# Altium integrated library Analog Devices Data Converters Analog-to-Digital Converters.IntLib: 2404 symbols (part 238 of 346)
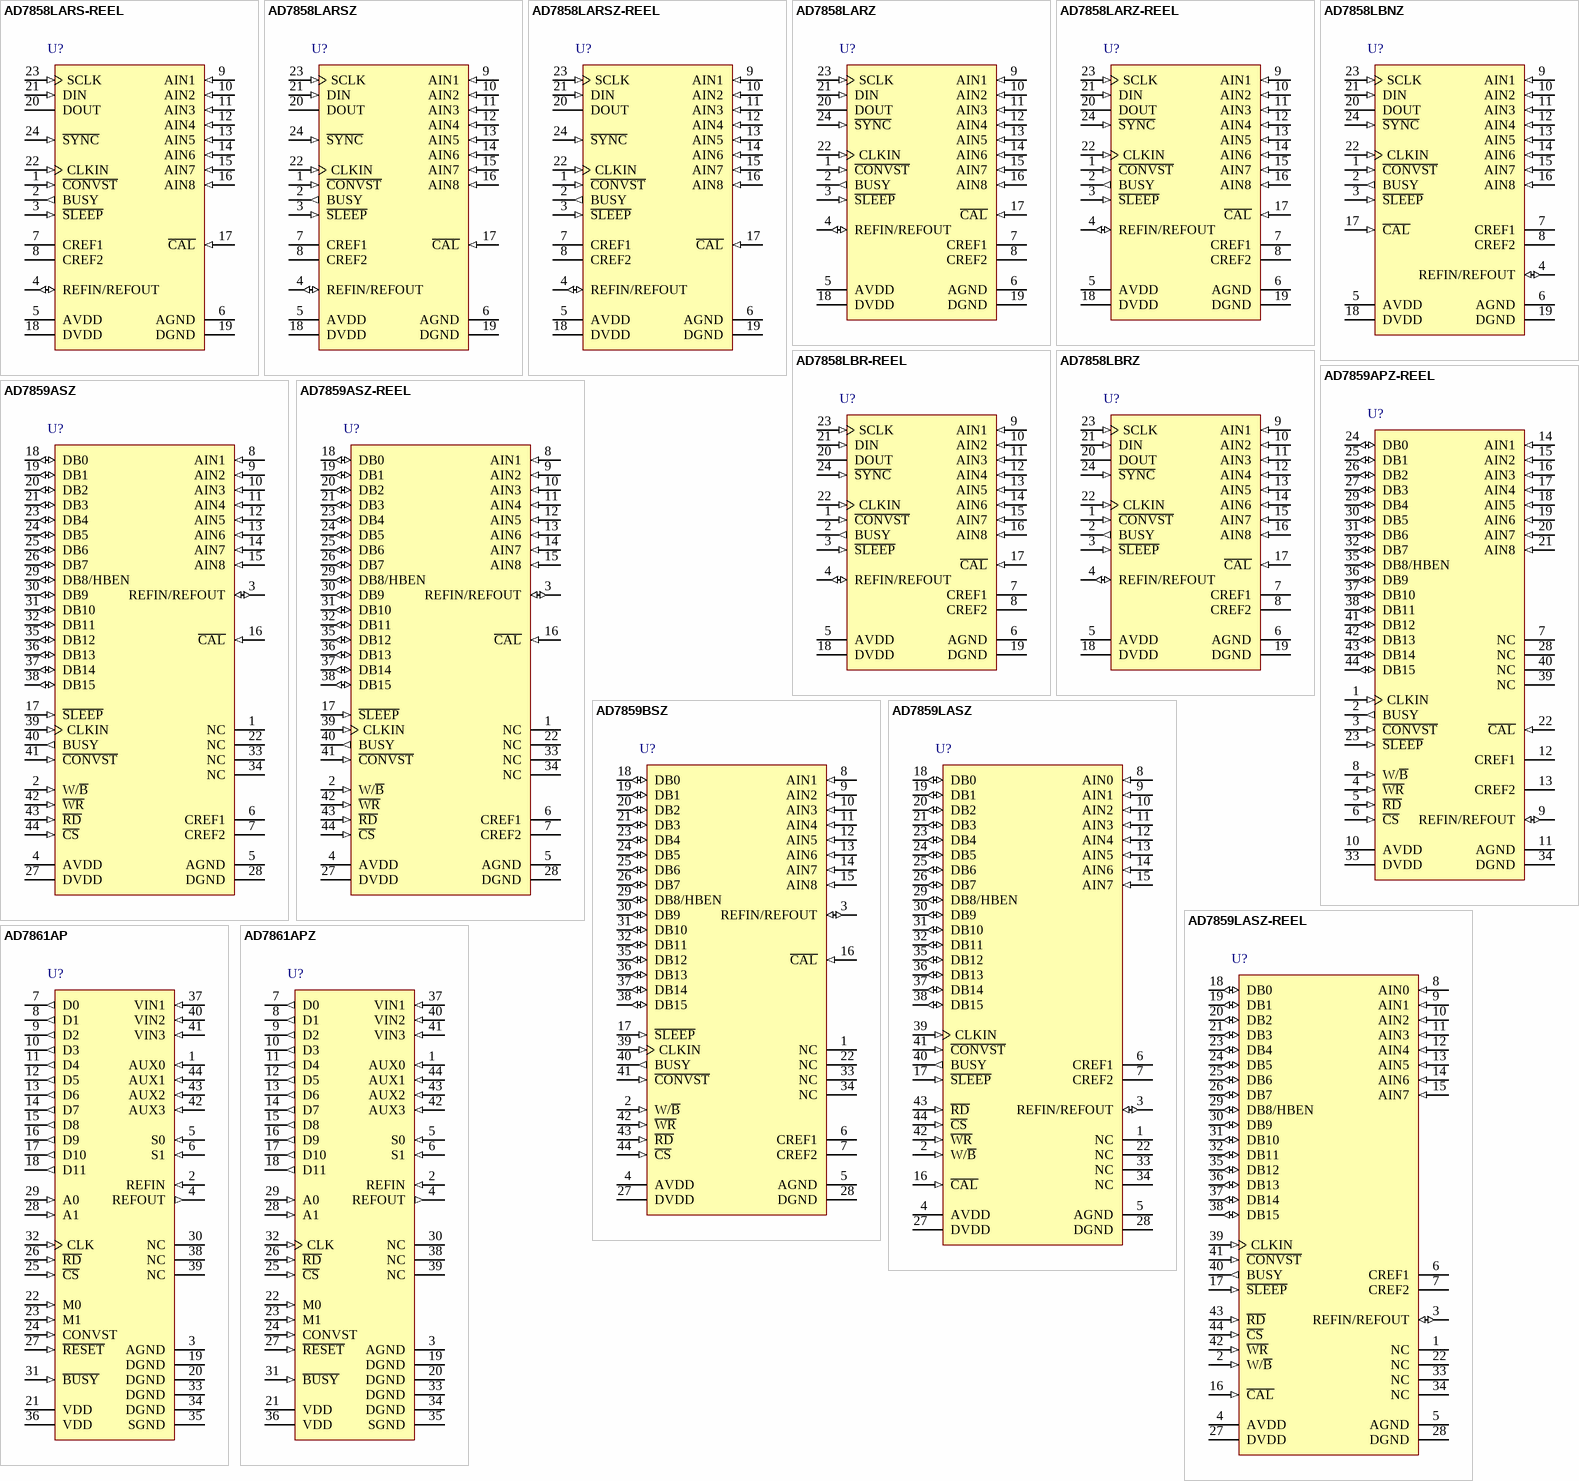
[diagram p282: symbols AD7858LARS-REEL to AD7861APZ]

## AD7859APZ-REEL
designator U?
Octal 12-Bit Sampling Analog-to-Digital Converter with Byte, Parallel Interface, Single Supply, 3 V 200KSPS, -40 to +85 degC, P-44A, Pb-Free, Reel; Generic Part Number: AD7859-200; Manufacturer: Analog Devices; PartNumber: AD7859APZ-REEL; Resolution (Bits): 12; Channels: 8; Throughput Rate (SPS): 200K; DatasheetVersion: Rev.A; PackageVersion: 2003; PackageReference: P-44A; PackageDescription: 44-Lead Plastic Leaded Chip Carrier [PLCC]; Supplier 1: Digi-Key; Supplier Part Number 1: AD7859APZ-REEL-ND; Supplier 2: Mouser; Supplier Part Number 2: 584-AD7859APZ-R; Interface: Byte, Par; RoHS: Y; Packing: Reel; Mounting Technology: Surface Mount; Code_JEDEC: MO-047-AC; Code_IPC: PLCC-44; ComponentLink1Description: Manufacturer URL; ComponentLink1URL: http://www.analog.com/en/index.html; ComponentLink2Description: Datasheet; ComponentLink2URL: http://www.analog.com/static/imported-files/data_sheets/AD7859.pdf; ComponentLink3Description: Package Specification; ComponentLink3URL: http://www.analog.com/static/imported-files/packages/533756178731793364534243243792136664964P44A.pdf; ComponentLink4Description: Product URL; ComponentLink4URL: http://www.analog.com/en/analog-to-digital-converters/ad-converters/ad7859/products/product.html
footprint P-44A_N (Leaded Chip Carrier, 44-Leads, Body 16.6x16.6mm, Pitch 1.27mm, IPC Medium Density)
footprint P-44A_L (Leaded Chip Carrier, 44-Leads, Body 16.6x16.6mm, Pitch 1.27mm, IPC High Density)
footprint P-44A_M (Leaded Chip Carrier, 44-Leads, Body 16.6x16.6mm, Pitch 1.27mm, IPC Low Density)
pins: 1 CLKIN (in) "Convert Start. Logic input. A low to high transition on this input puts the track/hold into its hold mode and starts conversion. When this input is not used, it should be tied to DVDD", 2 BUSY (out) "Busy Output. The busy output is triggered high when a conversion or a calibration is initiated, and remains high until the conversion or calibration is completed.", 3 ~{CONVST} (in) "Convert Start. Logic input. A low to high transition on this input puts the track/hold into its hold mode and starts conversion. When this input is not used, it should be tied to DVDD.", 4 ~{WR} (in) "Write Input. Active low logic input. Used in conjunction with CS to write to internal registers.", 5 ~{RD} (in) "Read Input. Active low logic input. Used in conjunction with CS to read from internal registers.", 6 ~{CS} (in) "Chip Select Input. Active low logic input. The device is selected when this input is active", 7 NC "No connect pins. These pins should be left unconnected", 8 W/~{B} (in) "Word/Byte input. When this input is at a logic 1, data is transferred to and from the AD7859/AD7859L in 16-bit words on pins DB0 to DB15. When this pin is at a Logic 0, byte transfer mode is enabled. Data is transferred on (See Datasheet)", 9 REFIN/REFOUT (io) "Reference Input/Output. This pin is connected to the internal reference through a series resistor and is the reference source for the analog-to-digital converter. The nominal reference voltage is 2.5 V and this appears at (See Datasheet)", 10 AVDD (power) "Analog Supply Voltage, +3.0 V to +5.5 V.", 11 AGND (power) "Analog Ground. Ground reference for track/hold, reference and DAC.", 12 CREF1 "Reference Capacitor (0.1 mF multilayer ceramic). This external capacitor is used as a charge source for the internal DAC. The capacitor should be tied between the pin and AGND.", 13 CREF2 "Reference Capacitor (0.01 mF ceramic disc). This external capacitor is used in conjunction with the on-chip reference.The capacitor should be tied between the pin and AGND.", 14 AIN1 (in) "Analog Inputs. Eight analog inputs which can be used as eight single ended inputs (referenced to AGND) or four pseudo differential inputs. Channel configuration is selected by writing to the control register. None of the (See Datasheet)", 15 AIN2 (in) "Analog Inputs. Eight analog inputs which can be used as eight single ended inputs (referenced to AGND) or four pseudo differential inputs. Channel configuration is selected by writing to the control register. None of the (See Datasheet)", 16 AIN3 (in) "Analog Inputs. Eight analog inputs which can be used as eight single ended inputs (referenced to AGND) or four pseudo differential inputs. Channel configuration is selected by writing to the control register. None of the (See Datasheet)", 17 AIN4 (in) "Analog Inputs. Eight analog inputs which can be used as eight single ended inputs (referenced to AGND) or four pseudo differential inputs. Channel configuration is selected by writing to the control register. None of the (See Datasheet)", 18 AIN5 (in) "Analog Inputs. Eight analog inputs which can be used as eight single ended inputs (referenced to AGND) or four pseudo differential inputs. Channel configuration is selected by writing to the control register. None of the (See Datasheet)", 19 AIN6 (in) "Analog Inputs. Eight analog inputs which can be used as eight single ended inputs (referenced to AGND) or four pseudo differential inputs. Channel configuration is selected by writing to the control register. None of the (See Datasheet)", 20 AIN7 (in) "Analog Inputs. Eight analog inputs which can be used as eight single ended inputs (referenced to AGND) or four pseudo differential inputs. Channel configuration is selected by writing to the control register. None of the (See Datasheet)", 21 AIN8 (in) "Analog Inputs. Eight analog inputs which can be used as eight single ended inputs (referenced to AGND) or four pseudo differential inputs. Channel configuration is selected by writing to the control register. None of the (See Datasheet)", 22 ~{CAL} (in) "Calibration Input. A logic 0 in this pin resets all logic. A rising edge on this pin initiates a calibration. This input overrides all other internal operations.", 23 ~{SLEEP} (in) "Sleep Input. This pin is used in conjunction with the PGMT0 and PGMT1 bits in the control register to determine the power-down mode. Please see the “Power-Down Options” section for details.", 24 DB0 (io) "Data Bits 0. Three state data I/O pins that are controlled by C\S\, R\D\ and W\R\. Data output is straight binary (unipolar mode) or twos complement (bipolar mode).", 25 DB1 (io) "Data Bits 1. Three state data I/O pins that are controlled by C\S\, R\D\ and W\R\. Data output is straight binary (unipolar mode) or twos complement (bipolar mode).", 26 DB2 (io) "Data Bits 2. Three state data I/O pins that are controlled by C\S\, R\D\ and W\R\. Data output is straight binary (unipolar mode) or twos complement (bipolar mode).", 27 DB3 (io) "Data Bits 3. Three state data I/O pins that are controlled by C\S\, R\D\ and W\R\. Data output is straight binary (unipolar mode) or twos complement (bipolar mode).", 28 NC "No connect pins. These pins should be left unconnected.", 29 DB4 (io) "Data Bits 4. Three state data I/O pins that are controlled by C\S\, R\D\ and W\R\. Data output is straight binary (unipolar mode) or twos complement (bipolar mode).", 30 DB5 (io) "Data Bits5. Three state data I/O pins that are controlled by C\S\, R\D\ and W\R\. Data output is straight binary (unipolar mode) or twos complement (bipolar mode).", 31 DB6 (io) "Data Bits 6. Three state data I/O pins that are controlled by C\S\, R\D\ and W\R\. Data output is straight binary (unipolar mode) or twos complement (bipolar mode).", 32 DB7 (io) "Data Bits 7. Three state data I/O pins that are controlled by C\S\, R\D\ and W\R\. Data output is straight binary (unipolar mode) or twos complement (bipolar mode).", 33 DVDD (power) "Digital Supply Voltage, +3.0 V to +5.5 V.", 34 DGND (power) "Digital Ground. Ground reference point for digital circuitry.", 35 DB8/HBEN (io) "Data Bits 8 Three state data I/O pins that are controlled by C\S\, R\D\ and W\R\. Data output is straight binary (unipolar mode) or twos complement (bipolar mode).", 36 DB9 (io) "Data Bits 9 . Three state data I/O pins that are controlled by C\S\, R\D\ and W\R\. Data output is straight binary (unipolar mode) or twos complement (bipolar mode).", 37 DB10 (io) "Data Bits 10. Three state data I/O pins that are controlled by C\S\, R\D\ and W\R\. Data output is straight binary (unipolar mode) or twos complement (bipolar mode).", 38 DB11 (io) "Data Bits 11. Three state data I/O pins that are controlled by C\S\, R\D\ and W\R\. Data output is straight binary (unipolar mode) or twos complement (bipolar mode).", 39 NC "No connect pins. These pins should be left unconnected.", 40 NC "No connect pins. These pins should be left unconnected.", 41 DB12 (io) "Data Bits 12. Three state data I/O pins that are controlled by CS, RD and WR. Data output is straight binary (unipolar mode) or twos complement (bipolar mode).", 42 DB13 (io) "Data Bits 13. Three state data I/O pins that are controlled by CS, RD and WR. Data output is straight binary (unipolar mode) or twos complement (bipolar mode).", 43 DB14 (io) "Data Bits 14. Three state data I/O pins that are controlled by CS, RD and WR. Data output is straight binary (unipolar mode) or twos complement (bipolar mode).", 44 DB15 (io) "Data Bits 15. Three state data I/O pins that are controlled by CS, RD and WR. Data output is straight binary (unipolar mode) or twos complement (bipolar mode)."

## AD7859ASZ
designator U?
Octal 12-Bit Sampling Analog-to-Digital Converter with Byte, Parallel Interface, Single Supply, 3 V, 200KSPS, -40 to +85 degC, S-44-2, Pb-Free, Tray; Generic Part Number: AD7859-200; Manufacturer: Analog Devices; PartNumber: AD7859ASZ; Resolution (Bits): 12; Channels: 8; Throughput Rate (SPS): 200K; DatasheetVersion: Rev.A; PackageVersion: 041807-A; PackageReference: S-44-2; PackageDescription: 44-Lead Metric Quad Flat Package [MQFP]; Supplier 1: Digi-Key; Supplier Part Number 1: AD7859ASZ-ND; Supplier 2: Newark; Supplier Part Number 2: 88H0050; Supplier 3: Mouser; Supplier Part Number 3: 584-AD7859ASZ; Interface: Byte, Par; RoHS: Y; Packing: Tray; Mounting Technology: Surface Mount; Code_JEDEC: MO-122-AA-1; ComponentLink1Description: Manufacturer URL; ComponentLink1URL: http://www.analog.com/en/index.html; ComponentLink2Description: Datasheet; ComponentLink2URL: http://www.analog.com/static/imported-files/data_sheets/AD7859.pdf; ComponentLink3Description: Package Specification; ComponentLink3URL: http://www.analog.com/static/imported-files/packages/209183S_44_2.pdf; ComponentLink4Description: Product URL; ComponentLink4URL: http://www.analog.com/en/analog-to-digital-converters/ad-converters/ad7859/products/product.html
footprint S-44-2_N (QFP, 44-Leads, Body 10x10mm, Pitch 0.8mm, IPC Medium Density)
footprint S-44-2_L (QFP, 44-Leads, Body 10x10mm, Pitch 0.8mm, IPC High Density)
footprint S-44-2_M (QFP, 44-Leads, Body 10x10mm, Pitch 0.8mm, IPC Low Density)
pins: 1 NC "No connect pins.These pins should be left unconnected.", 2 W/~{B} (in) "Word/Byte input.When this input is at a logic 1, data is transferred to and from the AD7859/AD7859L in 16-bit words on pins DB0 to DB15.When this pin is at a Logic 0, byte transfer mode is enabled.Data is transferred on pins (See Datasheet)", 3 REFIN/REFOUT (io) "Reference Input/Output.This pin is connected to the internal reference through a series resistor and is the reference source for the analog-to-digital converter.The nominal reference voltage is 2.5 V and this appears at the (See Datasheet)", 4 AVDD (power) "Analog Supply Voltage, +3.0 V to +5.5 V.", 5 AGND (power) "Analog Ground.Ground reference for track/hold, reference and DAC.", 6 CREF1 "Reference Capacitor (0.1 mF multilayer ceramic).This external capacitor is used as a charge source for the internal DAC. The capacitor should be tied between the pin and AGND.", 7 CREF2 "Reference Capacitor (0.01 mF ceramic disc).This external capacitor is used in conjunction with the on-chip reference.The capacitor should be tied between the pin and AGND.", 8 AIN1 (in) "Analog Inputs.Eight analog inputs which can be used as eight single ended inputs (referenced to AGND) or four pseudo differential inputs. Channel configuration is selected by writing to the control register. None of the (See Datasheet)", 9 AIN2 (in) "Analog Inputs.Eight analog inputs which can be used as eight single ended inputs (referenced to AGND) or four pseudo differential inputs. Channel configuration is selected by writing to the control register. None of the (See Datasheet)", 10 AIN3 (in) "Analog Inputs.Eight analog inputs which can be used as eight single ended inputs (referenced to AGND) or four pseudo differential inputs. Channel configuration is selected by writing to the control register. None of the (See Datasheet)", 11 AIN4 (in) "Analog Inputs.Eight analog inputs which can be used as eight single ended inputs (referenced to AGND) or four pseudo differential inputs. Channel configuration is selected by writing to the control register. None of the (See Datasheet)", 12 AIN5 (in) "Analog Inputs.Eight analog inputs which can be used as eight single ended inputs (referenced to AGND) or four pseudo differential inputs. Channel configuration is selected by writing to the control register. None of the (See Datasheet)", 13 AIN6 (in) "Analog Inputs.Eight analog inputs which can be used as eight single ended inputs (referenced to AGND) or four pseudo differential inputs. Channel configuration is selected by writing to the control register. None of the (See Datasheet)", 14 AIN7 (in) "Analog Inputs.Eight analog inputs which can be used as eight single ended inputs (referenced to AGND) or four pseudo differential inputs. Channel configuration is selected by writing to the control register. None of the (See Datasheet)", 15 AIN8 (in) "Analog Inputs.Eight analog inputs which can be used as eight single ended inputs (referenced to AGND) or four pseudo differential inputs. Channel configuration is selected by writing to the control register. None of the (See Datasheet)", 16 ~{CAL} (in) "Calibration Input.A logic 0 in this pin resets all logic. A rising edge on this pin initiates a calibration.  This input overrides all other internal operations.", 17 ~{SLEEP} (in) "Sleep Input.This pin is used in conjunction with the PGMT0 and PGMT1 bits in the control register to determine the power-down mode.  Please see the "Power-Down Options"section for details.", 18 DB0 (io) "Data Bits 0.Three state data I/O pins that are controlled by C\S\, R\D\ and W\R\.  Data output is straight binary(unipolar mode) or twos complement (bipolar mode).", 19 DB1 (io) "Data Bits 1.Three state data I/O pins that are controlled by C\S\, R\D\ and W\R\.  Data output is straight binary(unipolar mode) or twos complement (bipolar mode).", 20 DB2 (io) "Data Bits 2.Three state data I/O pins that are controlled by C\S\, R\D\ and W\R\.  Data output is straight binary(unipolar mode) or twos complement (bipolar mode).", 21 DB3 (io) "Data Bits 3.Three state data I/O pins that are controlled by C\S\, R\D\ and W\R\.  Data output is straight binary(unipolar mode) or twos complement (bipolar mode).", 22 NC "No connect pins.These pins should be left unconnected.", 23 DB4 (io) "Data Bits 4.Three state data I/O pins that are controlled by C\S\, R\D\ and W\R\.  Data output is straight binary(unipolar mode) or twos complement (bipolar mode).", 24 DB5 (io) "Data Bits 5.Three state data I/O pins that are controlled by C\S\, R\D\ and W\R\.  Data output is straight binary(unipolar mode) or twos complement (bipolar mode).", 25 DB6 (io) "Data Bits 6.Three state data I/O pins that are controlled by C\S\, R\D\ and W\R\.  Data output is straight binary(unipolar mode) or twos complement (bipolar mode).", 26 DB7 (io) "Data Bits 7.Three state data I/O pins that are controlled by C\S\, R\D\ and W\R\.  Data output is straight binary(unipolar mode) or twos complement (bipolar mode).", 27 DVDD (power) "Digital Supply Voltage, +3.0 V to +5.5 V.", 28 DGND (power) "Digital Ground. Ground reference point for digital circuitry.", 29 DB8/HBEN (io) "Data Bit 8/High Byte Enable.  When W/B\ is high, this pin acts as Data Bit 7, a three state data I/O pin that is controlled by C\S\, R\D\ and W\R\.  When W/B\ is low, this pin acts as the High Byte Enable pin.When HBEN is (See Datasheet)", 30 DB9 (io) "Data Bits 9.Three state data I/O pins that are controlled by C\S\, R\D\ and W\R\.  Data output is straight binary (unipolar mode) or twos complement (bipolar mode).", 31 DB10 (io) "Data Bits 10.Three state data I/O pins that are controlled by C\S\, R\D\ and W\R\.  Data output is straight binary (unipolar mode) or twos complement (bipolar mode).", 32 DB11 (io) "Data Bits 11.Three state data I/O pins that are controlled by C\S\, R\D\ and W\R\.  Data output is straight binary (unipolar mode) or twos complement (bipolar mode).", 33 NC "No connect pins.These pins should be left unconnected.", 34 NC "No connect pins.These pins should be left unconnected.", 35 DB12 (io) "Data Bits 12.Three state data I/O pins that are controlled by C\S\, R\D\ and W\R\.  Data output is straight binary (unipolar mode) or twos complement (bipolar mode).", 36 DB13 (io) "Data Bits 13.Three state data I/O pins that are controlled by C\S\, R\D\ and W\R\.  Data output is straight binary (unipolar mode) or twos complement (bipolar mode).", 37 DB14 (io) "Data Bits 14.Three state data I/O pins that are controlled by C\S\, R\D\ and W\R\.  Data output is straight binary (unipolar mode) or twos complement (bipolar mode).", 38 DB15 (io) "Data Bits 15.Three state data I/O pins that are controlled by C\S\, R\D\ and W\R\.  Data output is straight binary (unipolar mode) or twos complement (bipolar mode).", 39 CLKIN (in) "Master Clock Signal for the device (4 MHz for AD7859, 1.8 MHz for AD7859L). Sets the conversion and calibration times.", 40 BUSY (out) "Busy Output.The busy output is triggered high when a conversion or a calibration is initiated, and remains high until the conversion or calibration is completed.", 41 ~{CONVST} (in) "Convert Start. Logic input. A low to high transition on this input puts the track/hold into its hold mode and starts conversion. When this input is not used, it should be tied to DVDD.", 42 ~{WR} (in) "Write Input. Active low logic input. Used in conjunction with C\S\ to write to internal registers.", 43 ~{RD} (in) "Read Input. Active low logic input. Used in conjunction with C\S\ to read from internal registers.", 44 ~{CS} (in) "Chip Select Input.Active low logic input. The device is selected when this input is active."

## AD7859ASZ-REEL
designator U?
Octal 12-Bit Sampling Analog-to-Digital Converter with Byte, Parallel Interface, Single Supply, 3 V, 200KSPS, -40 to +85 degC, S-44-2, Pb-Free, Reel; Generic Part Number: AD7859-200; Manufacturer: Analog Devices; PartNumber: AD7859ASZ-REEL; Resolution (Bits): 12; Channels: 8; Throughput Rate (SPS): 200K; DatasheetVersion: Rev.A; PackageVersion: 041807-A; PackageReference: S-44-2; PackageDescription: 44-Lead Metric Quad Flat Package [MQFP]; Supplier 1: Digi-Key; Supplier Part Number 1: AD7859ASZ-REEL-ND; Supplier 2: Mouser; Supplier Part Number 2: 584-AD7859ASZ-R; Interface: Byte, Par; RoHS: Y; Packing: Reel; Mounting Technology: Surface Mount; Code_JEDEC: MO-122-AA-1; ComponentLink1Description: Manufacturer URL; ComponentLink1URL: http://www.analog.com/en/index.html; ComponentLink2Description: Datasheet; ComponentLink2URL: http://www.analog.com/static/imported-files/data_sheets/AD7859.pdf; ComponentLink3Description: Package Specification; ComponentLink3URL: http://www.analog.com/static/imported-files/packages/209183S_44_2.pdf; ComponentLink4Description: Product URL; ComponentLink4URL: http://www.analog.com/en/analog-to-digital-converters/ad-converters/ad7859/products/product.html
footprint S-44-2_N (QFP, 44-Leads, Body 10x10mm, Pitch 0.8mm, IPC Medium Density)
footprint S-44-2_L (QFP, 44-Leads, Body 10x10mm, Pitch 0.8mm, IPC High Density)
footprint S-44-2_M (QFP, 44-Leads, Body 10x10mm, Pitch 0.8mm, IPC Low Density)
pins: 1 NC "No connect pins.These pins should be left unconnected.", 2 W/~{B} (in) "Word/Byte input.When this input is at a logic 1, data is transferred to and from the AD7859/AD7859L in 16-bit words on pins DB0 to DB15.When this pin is at a Logic 0, byte transfer mode is enabled.Data is transferred on pins (See Datasheet)", 3 REFIN/REFOUT (io) "Reference Input/Output.This pin is connected to the internal reference through a series resistor and is the reference source for the analog-to-digital converter.The nominal reference voltage is 2.5 V and this appears at the (See Datasheet)", 4 AVDD (power) "Analog Supply Voltage, +3.0 V to +5.5 V.", 5 AGND (power) "Analog Ground.Ground reference for track/hold, reference and DAC.", 6 CREF1 "Reference Capacitor (0.1 mF multilayer ceramic).This external capacitor is used as a charge source for the internal DAC. The capacitor should be tied between the pin and AGND.", 7 CREF2 "Reference Capacitor (0.01 mF ceramic disc).This external capacitor is used in conjunction with the on-chip reference.The capacitor should be tied between the pin and AGND.", 8 AIN1 (in) "Analog Inputs.Eight analog inputs which can be used as eight single ended inputs (referenced to AGND) or four pseudo differential inputs. Channel configuration is selected by writing to the control register. None of the (See Datasheet)", 9 AIN2 (in) "Analog Inputs.Eight analog inputs which can be used as eight single ended inputs (referenced to AGND) or four pseudo differential inputs. Channel configuration is selected by writing to the control register. None of the (See Datasheet)", 10 AIN3 (in) "Analog Inputs.Eight analog inputs which can be used as eight single ended inputs (referenced to AGND) or four pseudo differential inputs. Channel configuration is selected by writing to the control register. None of the (See Datasheet)", 11 AIN4 (in) "Analog Inputs.Eight analog inputs which can be used as eight single ended inputs (referenced to AGND) or four pseudo differential inputs. Channel configuration is selected by writing to the control register. None of the (See Datasheet)", 12 AIN5 (in) "Analog Inputs.Eight analog inputs which can be used as eight single ended inputs (referenced to AGND) or four pseudo differential inputs. Channel configuration is selected by writing to the control register. None of the (See Datasheet)", 13 AIN6 (in) "Analog Inputs.Eight analog inputs which can be used as eight single ended inputs (referenced to AGND) or four pseudo differential inputs. Channel configuration is selected by writing to the control register. None of the (See Datasheet)", 14 AIN7 (in) "Analog Inputs.Eight analog inputs which can be used as eight single ended inputs (referenced to AGND) or four pseudo differential inputs. Channel configuration is selected by writing to the control register. None of the (See Datasheet)", 15 AIN8 (in) "Analog Inputs.Eight analog inputs which can be used as eight single ended inputs (referenced to AGND) or four pseudo differential inputs. Channel configuration is selected by writing to the control register. None of the (See Datasheet)", 16 ~{CAL} (in) "Calibration Input.A logic 0 in this pin resets all logic. A rising edge on this pin initiates a calibration.  This input overrides all other internal operations.", 17 ~{SLEEP} (in) "Sleep Input.This pin is used in conjunction with the PGMT0 and PGMT1 bits in the control register to determine the power-down mode.  Please see the "Power-Down Options"section for details.", 18 DB0 (io) "Data Bits 0.Three state data I/O pins that are controlled by C\S\, R\D\ and W\R\.  Data output is straight binary(unipolar mode) or twos complement (bipolar mode).", 19 DB1 (io) "Data Bits 1.Three state data I/O pins that are controlled by C\S\, R\D\ and W\R\.  Data output is straight binary(unipolar mode) or twos complement (bipolar mode).", 20 DB2 (io) "Data Bits 2.Three state data I/O pins that are controlled by C\S\, R\D\ and W\R\.  Data output is straight binary(unipolar mode) or twos complement (bipolar mode).", 21 DB3 (io) "Data Bits 3.Three state data I/O pins that are controlled by C\S\, R\D\ and W\R\.  Data output is straight binary(unipolar mode) or twos complement (bipolar mode).", 22 NC "No connect pins.These pins should be left unconnected.", 23 DB4 (io) "Data Bits 4.Three state data I/O pins that are controlled by C\S\, R\D\ and W\R\.  Data output is straight binary(unipolar mode) or twos complement (bipolar mode).", 24 DB5 (io) "Data Bits 5.Three state data I/O pins that are controlled by C\S\, R\D\ and W\R\.  Data output is straight binary(unipolar mode) or twos complement (bipolar mode).", 25 DB6 (io) "Data Bits 6.Three state data I/O pins that are controlled by C\S\, R\D\ and W\R\.  Data output is straight binary(unipolar mode) or twos complement (bipolar mode).", 26 DB7 (io) "Data Bits 7.Three state data I/O pins that are controlled by C\S\, R\D\ and W\R\.  Data output is straight binary(unipolar mode) or twos complement (bipolar mode).", 27 DVDD (power) "Digital Supply Voltage, +3.0 V to +5.5 V.", 28 DGND (power) "Digital Ground. Ground reference point for digital circuitry.", 29 DB8/HBEN (io) "Data Bit 8/High Byte Enable.  When W/B\ is high, this pin acts as Data Bit 7, a three state data I/O pin that is controlled by C\S\, R\D\ and W\R\.  When W/B\ is low, this pin acts as the High Byte Enable pin.When HBEN is (See Datasheet)", 30 DB9 (io) "Data Bits 9.Three state data I/O pins that are controlled by C\S\, R\D\ and W\R\.  Data output is straight binary (unipolar mode) or twos complement (bipolar mode).", 31 DB10 (io) "Data Bits 10.Three state data I/O pins that are controlled by C\S\, R\D\ and W\R\.  Data output is straight binary (unipolar mode) or twos complement (bipolar mode).", 32 DB11 (io) "Data Bits 11.Three state data I/O pins that are controlled by C\S\, R\D\ and W\R\.  Data output is straight binary (unipolar mode) or twos complement (bipolar mode).", 33 NC "No connect pins.These pins should be left unconnected.", 34 NC "No connect pins.These pins should be left unconnected.", 35 DB12 (io) "Data Bits 12.Three state data I/O pins that are controlled by C\S\, R\D\ and W\R\.  Data output is straight binary (unipolar mode) or twos complement (bipolar mode).", 36 DB13 (io) "Data Bits 13.Three state data I/O pins that are controlled by C\S\, R\D\ and W\R\.  Data output is straight binary (unipolar mode) or twos complement (bipolar mode).", 37 DB14 (io) "Data Bits 14.Three state data I/O pins that are controlled by C\S\, R\D\ and W\R\.  Data output is straight binary (unipolar mode) or twos complement (bipolar mode).", 38 DB15 (io) "Data Bits 15.Three state data I/O pins that are controlled by C\S\, R\D\ and W\R\.  Data output is straight binary (unipolar mode) or twos complement (bipolar mode).", 39 CLKIN (in) "Master Clock Signal for the device (4 MHz for AD7859, 1.8 MHz for AD7859L). Sets the conversion and calibration times.", 40 BUSY (out) "Busy Output.The busy output is triggered high when a conversion or a calibration is initiated, and remains high until the conversion or calibration is completed.", 41 ~{CONVST} (in) "Convert Start. Logic input. A low to high transition on this input puts the track/hold into its hold mode and starts conversion. When this input is not used, it should be tied to DVDD.", 42 ~{WR} (in) "Write Input. Active low logic input. Used in conjunction with C\S\ to write to internal registers.", 43 ~{RD} (in) "Read Input. Active low logic input. Used in conjunction with C\S\ to read from internal registers.", 44 ~{CS} (in) "Chip Select Input.Active low logic input. The device is selected when this input is active."

## AD7859BSZ
designator U?
Octal 12-Bit Sampling Analog-to-Digital Converter with Byte, Parallel Interface, Single Supply, 3 V, 200KSPS, -40 to +85 degC, S-44-2, Pb-Free, Tray; Generic Part Number: AD7859-200; Manufacturer: Analog Devices; PartNumber: AD7859BSZ; Resolution (Bits): 12; Channels: 8; Throughput Rate (SPS): 200K; DatasheetVersion: Rev.A; PackageVersion: 041807-A; PackageReference: S-44-2; PackageDescription: 44-Lead Metric Quad Flat Package [MQFP]; Supplier 1: Digi-Key; Supplier Part Number 1: AD7859BSZ-ND; Supplier 2: Mouser; Supplier Part Number 2: 584-AD7859BSZ; Interface: Byte, Par; RoHS: Y; Packing: Tray; Mounting Technology: Surface Mount; Code_JEDEC: MO-122-AA-1; ComponentLink1Description: Manufacturer URL; ComponentLink1URL: http://www.analog.com/en/index.html; ComponentLink2Description: Datasheet; ComponentLink2URL: http://www.analog.com/static/imported-files/data_sheets/AD7859.pdf; ComponentLink3Description: Package Specification; ComponentLink3URL: http://www.analog.com/static/imported-files/packages/209183S_44_2.pdf; ComponentLink4Description: Product URL; ComponentLink4URL: http://www.analog.com/en/analog-to-digital-converters/ad-converters/ad7859/products/product.html
footprint S-44-2_N (QFP, 44-Leads, Body 10x10mm, Pitch 0.8mm, IPC Medium Density)
footprint S-44-2_L (QFP, 44-Leads, Body 10x10mm, Pitch 0.8mm, IPC High Density)
footprint S-44-2_M (QFP, 44-Leads, Body 10x10mm, Pitch 0.8mm, IPC Low Density)
pins: 1 NC "No connect pins.These pins should be left unconnected.", 2 W/~{B} (in) "Word/Byte input.When this input is at a logic 1, data is transferred to and from the AD7859/AD7859L in 16-bit words on pins DB0 to DB15.When this pin is at a Logic 0, byte transfer mode is enabled.Data is transferred on pins (See Datasheet)", 3 REFIN/REFOUT (io) "Reference Input/Output.This pin is connected to the internal reference through a series resistor and is the reference source for the analog-to-digital converter.The nominal reference voltage is 2.5 V and this appears at the (See Datasheet)", 4 AVDD (power) "Analog Supply Voltage, +3.0 V to +5.5 V.", 5 AGND (power) "Analog Ground.Ground reference for track/hold, reference and DAC.", 6 CREF1 "Reference Capacitor (0.1 mF multilayer ceramic).This external capacitor is used as a charge source for the internal DAC. The capacitor should be tied between the pin and AGND.", 7 CREF2 "Reference Capacitor (0.01 mF ceramic disc).This external capacitor is used in conjunction with the on-chip reference.The capacitor should be tied between the pin and AGND.", 8 AIN1 (in) "Analog Inputs.Eight analog inputs which can be used as eight single ended inputs (referenced to AGND) or four pseudo differential inputs. Channel configuration is selected by writing to the control register. None of the (See Datasheet)", 9 AIN2 (in) "Analog Inputs.Eight analog inputs which can be used as eight single ended inputs (referenced to AGND) or four pseudo differential inputs. Channel configuration is selected by writing to the control register. None of the (See Datasheet)", 10 AIN3 (in) "Analog Inputs.Eight analog inputs which can be used as eight single ended inputs (referenced to AGND) or four pseudo differential inputs. Channel configuration is selected by writing to the control register. None of the (See Datasheet)", 11 AIN4 (in) "Analog Inputs.Eight analog inputs which can be used as eight single ended inputs (referenced to AGND) or four pseudo differential inputs. Channel configuration is selected by writing to the control register. None of the (See Datasheet)", 12 AIN5 (in) "Analog Inputs.Eight analog inputs which can be used as eight single ended inputs (referenced to AGND) or four pseudo differential inputs. Channel configuration is selected by writing to the control register. None of the (See Datasheet)", 13 AIN6 (in) "Analog Inputs.Eight analog inputs which can be used as eight single ended inputs (referenced to AGND) or four pseudo differential inputs. Channel configuration is selected by writing to the control register. None of the (See Datasheet)", 14 AIN7 (in) "Analog Inputs.Eight analog inputs which can be used as eight single ended inputs (referenced to AGND) or four pseudo differential inputs. Channel configuration is selected by writing to the control register. None of the (See Datasheet)", 15 AIN8 (in) "Analog Inputs.Eight analog inputs which can be used as eight single ended inputs (referenced to AGND) or four pseudo differential inputs. Channel configuration is selected by writing to the control register. None of the (See Datasheet)", 16 ~{CAL} (in) "Calibration Input.A logic 0 in this pin resets all logic. A rising edge on this pin initiates a calibration.  This input overrides all other internal operations.", 17 ~{SLEEP} (in) "Sleep Input.This pin is used in conjunction with the PGMT0 and PGMT1 bits in the control register to determine the power-down mode.  Please see the "Power-Down Options"section for details.", 18 DB0 (io) "Data Bits 0.Three state data I/O pins that are controlled by C\S\, R\D\ and W\R\.  Data output is straight binary(unipolar mode) or twos complement (bipolar mode).", 19 DB1 (io) "Data Bits 1.Three state data I/O pins that are controlled by C\S\, R\D\ and W\R\.  Data output is straight binary(unipolar mode) or twos complement (bipolar mode).", 20 DB2 (io) "Data Bits 2.Three state data I/O pins that are controlled by C\S\, R\D\ and W\R\.  Data output is straight binary(unipolar mode) or twos complement (bipolar mode).", 21 DB3 (io) "Data Bits 3.Three state data I/O pins that are controlled by C\S\, R\D\ and W\R\.  Data output is straight binary(unipolar mode) or twos complement (bipolar mode).", 22 NC "No connect pins.These pins should be left unconnected.", 23 DB4 (io) "Data Bits 4.Three state data I/O pins that are controlled by C\S\, R\D\ and W\R\.  Data output is straight binary(unipolar mode) or twos complement (bipolar mode).", 24 DB5 (io) "Data Bits 5.Three state data I/O pins that are controlled by C\S\, R\D\ and W\R\.  Data output is straight binary(unipolar mode) or twos complement (bipolar mode).", 25 DB6 (io) "Data Bits 6.Three state data I/O pins that are controlled by C\S\, R\D\ and W\R\.  Data output is straight binary(unipolar mode) or twos complement (bipolar mode).", 26 DB7 (io) "Data Bits 7.Three state data I/O pins that are controlled by C\S\, R\D\ and W\R\.  Data output is straight binary(unipolar mode) or twos complement (bipolar mode).", 27 DVDD (power) "Digital Supply Voltage, +3.0 V to +5.5 V.", 28 DGND (power) "Digital Ground. Ground reference point for digital circuitry.", 29 DB8/HBEN (io) "Data Bit 8/High Byte Enable.  When W/B\ is high, this pin acts as Data Bit 7, a three state data I/O pin that is controlled by C\S\, R\D\ and W\R\.  When W/B\ is low, this pin acts as the High Byte Enable pin.When HBEN is (See Datasheet)", 30 DB9 (io) "Data Bits 9.Three state data I/O pins that are controlled by C\S\, R\D\ and W\R\.  Data output is straight binary (unipolar mode) or twos complement (bipolar mode).", 31 DB10 (io) "Data Bits 10.Three state data I/O pins that are controlled by C\S\, R\D\ and W\R\.  Data output is straight binary (unipolar mode) or twos complement (bipolar mode).", 32 DB11 (io) "Data Bits 11.Three state data I/O pins that are controlled by C\S\, R\D\ and W\R\.  Data output is straight binary (unipolar mode) or twos complement (bipolar mode).", 33 NC "No connect pins.These pins should be left unconnected.", 34 NC "No connect pins.These pins should be left unconnected.", 35 DB12 (io) "Data Bits 12.Three state data I/O pins that are controlled by C\S\, R\D\ and W\R\.  Data output is straight binary (unipolar mode) or twos complement (bipolar mode).", 36 DB13 (io) "Data Bits 13.Three state data I/O pins that are controlled by C\S\, R\D\ and W\R\.  Data output is straight binary (unipolar mode) or twos complement (bipolar mode).", 37 DB14 (io) "Data Bits 14.Three state data I/O pins that are controlled by C\S\, R\D\ and W\R\.  Data output is straight binary (unipolar mode) or twos complement (bipolar mode).", 38 DB15 (io) "Data Bits 15.Three state data I/O pins that are controlled by C\S\, R\D\ and W\R\.  Data output is straight binary (unipolar mode) or twos complement (bipolar mode).", 39 CLKIN (in) "Master Clock Signal for the device (4 MHz for AD7859, 1.8 MHz for AD7859L). Sets the conversion and calibration times.", 40 BUSY (out) "Busy Output.The busy output is triggered high when a conversion or a calibration is initiated, and remains high until the conversion or calibration is completed.", 41 ~{CONVST} (in) "Convert Start. Logic input. A low to high transition on this input puts the track/hold into its hold mode and starts conversion. When this input is not used, it should be tied to DVDD.", 42 ~{WR} (in) "Write Input. Active low logic input. Used in conjunction with C\S\ to write to internal registers.", 43 ~{RD} (in) "Read Input. Active low logic input. Used in conjunction with C\S\ to read from internal registers.", 44 ~{CS} (in) "Chip Select Input.Active low logic input. The device is selected when this input is active."

## AD7859LASZ
designator U?
Octal 12-Bit Sampling Analog-to-Digital Converter with Byte, Parallel Interface, Single Supply, 3 V 100KSPS, -40 to +85 degC, S-44-2, Pb-Free, Tray; Generic Part Number: AD7859L-100; Manufacturer: Analog Devices; PartNumber: AD7859LASZ; Resolution (Bits): 12; Channels: 8; Throughput Rate (SPS): 100K; DatasheetVersion: Rev.A; PackageVersion: 041807-A; PackageReference: S-44-2; PackageDescription: 44-Lead Metric Quad Flat Package [MQFP]; Supplier 1: Digi-Key; Supplier Part Number 1: AD7859LASZ-ND; Supplier 2: Farnell; Supplier Part Number 2: 1423975; Supplier 3: Newark; Supplier Part Number 3: 59K5716; Supplier 4: Mouser; Supplier Part Number 4: 584-AD7859LASZ; Interface: Byte, Par; RoHS: Y; Packing: Tray; Mounting Technology: Surface Mount; Code_JEDEC: MO-122-AA-1; ComponentLink1Description: Manufacturer URL; ComponentLink1URL: http://www.analog.com/en/index.html; ComponentLink2Description: Datasheet; ComponentLink2URL: http://www.analog.com/static/imported-files/data_sheets/AD7859.pdf; ComponentLink3Description: Package Specification; ComponentLink3URL: http://www.analog.com/static/imported-files/packages/209183S_44_2.pdf; ComponentLink4Description: Product URL; ComponentLink4URL: http://www.analog.com/en/analog-to-digital-converters/ad-converters/ad7859/products/product.html
footprint S-44-2_N (QFP, 44-Leads, Body 10x10mm, Pitch 0.8mm, IPC Medium Density)
footprint S-44-2_L (QFP, 44-Leads, Body 10x10mm, Pitch 0.8mm, IPC High Density)
footprint S-44-2_M (QFP, 44-Leads, Body 10x10mm, Pitch 0.8mm, IPC Low Density)
pins: 1 NC "No connect pins. These pins should be left unconnected", 2 W/~{B} (in) "Word/Byte input. When this input is at a logic 1, data is transferred to and from the AD7859/AD7859L in 16-bit words on pins DB0 to DB15. When this pin is at a Logic 0, byte transfer mode is enabled. Data is transferred on (See Datasheet)", 3 REFIN/REFOUT (io) "Reference Input/Output. This pin is connected to the internal reference through a series resistor and is the reference source for the analog-to-digital converter. The nominal reference voltage is 2.5 V and this appears at (See Datasheet)", 4 AVDD (power) "Analog Supply Voltage, +3.0 V to +5.5 V.", 5 AGND (power) "Analog Ground. Ground reference for track/hold, reference and DAC.", 6 CREF1 "Reference Capacitor (0.1 mF multilayer ceramic). This external capacitor is used as a charge source for the internal DAC. The capacitor should be tied between the pin and AGND.", 7 CREF2 "Reference Capacitor (0.01 mF ceramic disc). This external capacitor is used in conjunction with the on-chip reference.The capacitor should be tied between the pin and AGND.", 8 AIN0 (in) "Analog Inputs. Eight analog inputs which can be used as eight single ended inputs (referenced to AGND) or four pseudo differential inputs. Channel configuration is selected by writing to the control register. None of the (See Datasheet)", 9 AIN1 (in) "Analog Inputs. Eight analog inputs which can be used as eight single ended inputs (referenced to AGND) or four pseudo differential inputs. Channel configuration is selected by writing to the control register. None of the (See Datasheet)", 10 AIN2 (in) "Analog Inputs. Eight analog inputs which can be used as eight single ended inputs (referenced to AGND) or four pseudo differential inputs. Channel configuration is selected by writing to the control register. None of the (See Datasheet)", 11 AIN3 (in) "Analog Inputs. Eight analog inputs which can be used as eight single ended inputs (referenced to AGND) or four pseudo differential inputs. Channel configuration is selected by writing to the control register. None of the (See Datasheet)", 12 AIN4 (in) "Analog Inputs. Eight analog inputs which can be used as eight single ended inputs (referenced to AGND) or four pseudo differential inputs. Channel configuration is selected by writing to the control register. None of the (See Datasheet)", 13 AIN5 (in) "Analog Inputs. Eight analog inputs which can be used as eight single ended inputs (referenced to AGND) or four pseudo differential inputs. Channel configuration is selected by writing to the control register. None of the (See Datasheet)", 14 AIN6 (in) "Analog Inputs. Eight analog inputs which can be used as eight single ended inputs (referenced to AGND) or four pseudo differential inputs. Channel configuration is selected by writing to the control register. None of the (See Datasheet)", 15 AIN7 (in) "Analog Inputs. Eight analog inputs which can be used as eight single ended inputs (referenced to AGND) or four pseudo differential inputs. Channel configuration is selected by writing to the control register. None of the (See Datasheet)", 16 ~{CAL} (in) "Calibration Input. A logic 0 in this pin resets all logic. A rising edge on this pin initiates a calibration. This input overrides all other internal operations.", 17 ~{SLEEP} (in) "Sleep Input. This pin is used in conjunction with the PGMT0 and PGMT1 bits in the control register to determine the power-down mode. Please see the "Power-Down Options" section for details.", 18 DB0 (io) "Data Bits 0. Three state data I/O pins that are controlled by C\S\, R\D\ and W\R\. Data output is straight binary (unipolar mode) or twos complement (bipolar mode).", 19 DB1 (io) "Data Bits 1. Three state data I/O pins that are controlled by C\S\, R\D\ and W\R\. Data output is straight binary (unipolar mode) or twos complement (bipolar mode).", 20 DB2 (io) "Data Bits 2. Three state data I/O pins that are controlled by C\S\, R\D\ and W\R\. Data output is straight binary (unipolar mode) or twos complement (bipolar mode).", 21 DB3 (io) "Data Bits 3. Three state data I/O pins that are controlled by C\S\, R\D\ and W\R\. Data output is straight binary (unipolar mode) or twos complement (bipolar mode).", 22 NC "No connect pins. These pins should be left unconnected.", 23 DB4 (io) "Data Bits 4. Three state data I/O pins that are controlled by C\S\, R\D\ and W\R\. Data output is straight binary (unipolar mode) or twos complement (bipolar mode).", 24 DB5 (io) "Data Bits 5. Three state data I/O pins that are controlled by C\S\,\R\D\ and W\R\. Data output is straight binary (unipolar mode) or twos complement (bipolar mode).", 25 DB6 (io) "Data Bits 6. Three state data I/O pins that are controlled by C\S\, R\D\ and W\R\. Data output is straight binary (unipolar mode) or twos complement (bipolar mode).", 26 DB7 (io) "Data Bits 7. Three state data I/O pins that are controlled by C\S\, R\D\ and W\R\. Data output is straight binary (unipolar mode) or twos complement (bipolar mode).", 27 DVDD (power) "Digital Supply Voltage, +3.0 V to +5.5 V.", 28 DGND (power) "Digital Ground. Ground reference point for digital circuitry.", 29 DB8/HBEN (io) "Data Bits 8. Three state data I/O pins that are controlled by C\S\, R\D\ and W\R\. Data output is straight binary (unipolar mode) or twos complement (bipolar mode).", 30 DB9 (io) "Data Bits 9. Three state data I/O pins that are controlled by C\S\, R\D\ and W\R\. Data output is straight binary (unipolar mode) or twos complement (bipolar mode).", 31 DB10 (io) "Data Bits 10. Three state data I/O pins that are controlled by C\S\, R\D\ and W\R\. Data output is straight binary (unipolar mode) or twos complement (bipolar mode).", 32 DB11 (io) "Data Bits 11. Three state data I/O pins that are controlled by C\S\, R\D\ and W\R\. Data output is straight binary (unipolar mode) or twos complement (bipolar mode).", 33 NC "No connect pins. These pins should be left unconnected.", 34 NC "No connect pins. These pins should be left unconnected.", 35 DB12 (io) "Data Bits 12. Three state data I/O pins that are controlled by C\S\, R\D\ and W\R\. Data output is straight binary (unipolar mode) or twos complement (bipolar mode).", 36 DB13 (io) "Data Bits 13. Three state data I/O pins that are controlled by C\S\, R\D\ and W\R\. Data output is straight binary (unipolar mode) or twos complement (bipolar mode).", 37 DB14 (io) "Data Bits 14. Three state data I/O pins that are controlled by C\S\, R\D\ and W\R\. Data output is straight binary (unipolar mode) or twos complement (bipolar mode).", 38 DB15 (io) "Data Bits 15. Three state data I/O pins that are controlled by C\S\, R\D\ and W\R\. Data output is straight binary (unipolar mode) or twos complement (bipolar mode).", 39 CLKIN (in) "Convert Start. Logic input. A low to high transition on this input puts the track/hold into its hold mode and starts conversion. When this input is not used, it should be tied to DVDD", 40 BUSY (out) "Busy Output. The busy output is triggered high when a conversion or a calibration is initiated, and remains high until the conversion or calibration is completed.", 41 ~{CONVST} (in) "Convert Start. Logic input. A low to high transition on this input puts the track/hold into its hold mode and starts conversion. When this input is not used, it should be tied to DVDD.", 42 ~{WR} (in) "Write Input. Active low logic input. Used in conjunction with C\S\ to write to internal registers.", 43 ~{RD} (in) "Read Input. Active low logic input. Used in conjunction with C\S\ to read from internal registers.", 44 ~{CS} (in) "Chip Select Input. Active low logic input. The device is selected when this input is active"